# Altium integrated library Linear Technology PMIC-Switching Reg LTC1174-LTC3901.IntLib: 2647 symbols (part 30 of 310)
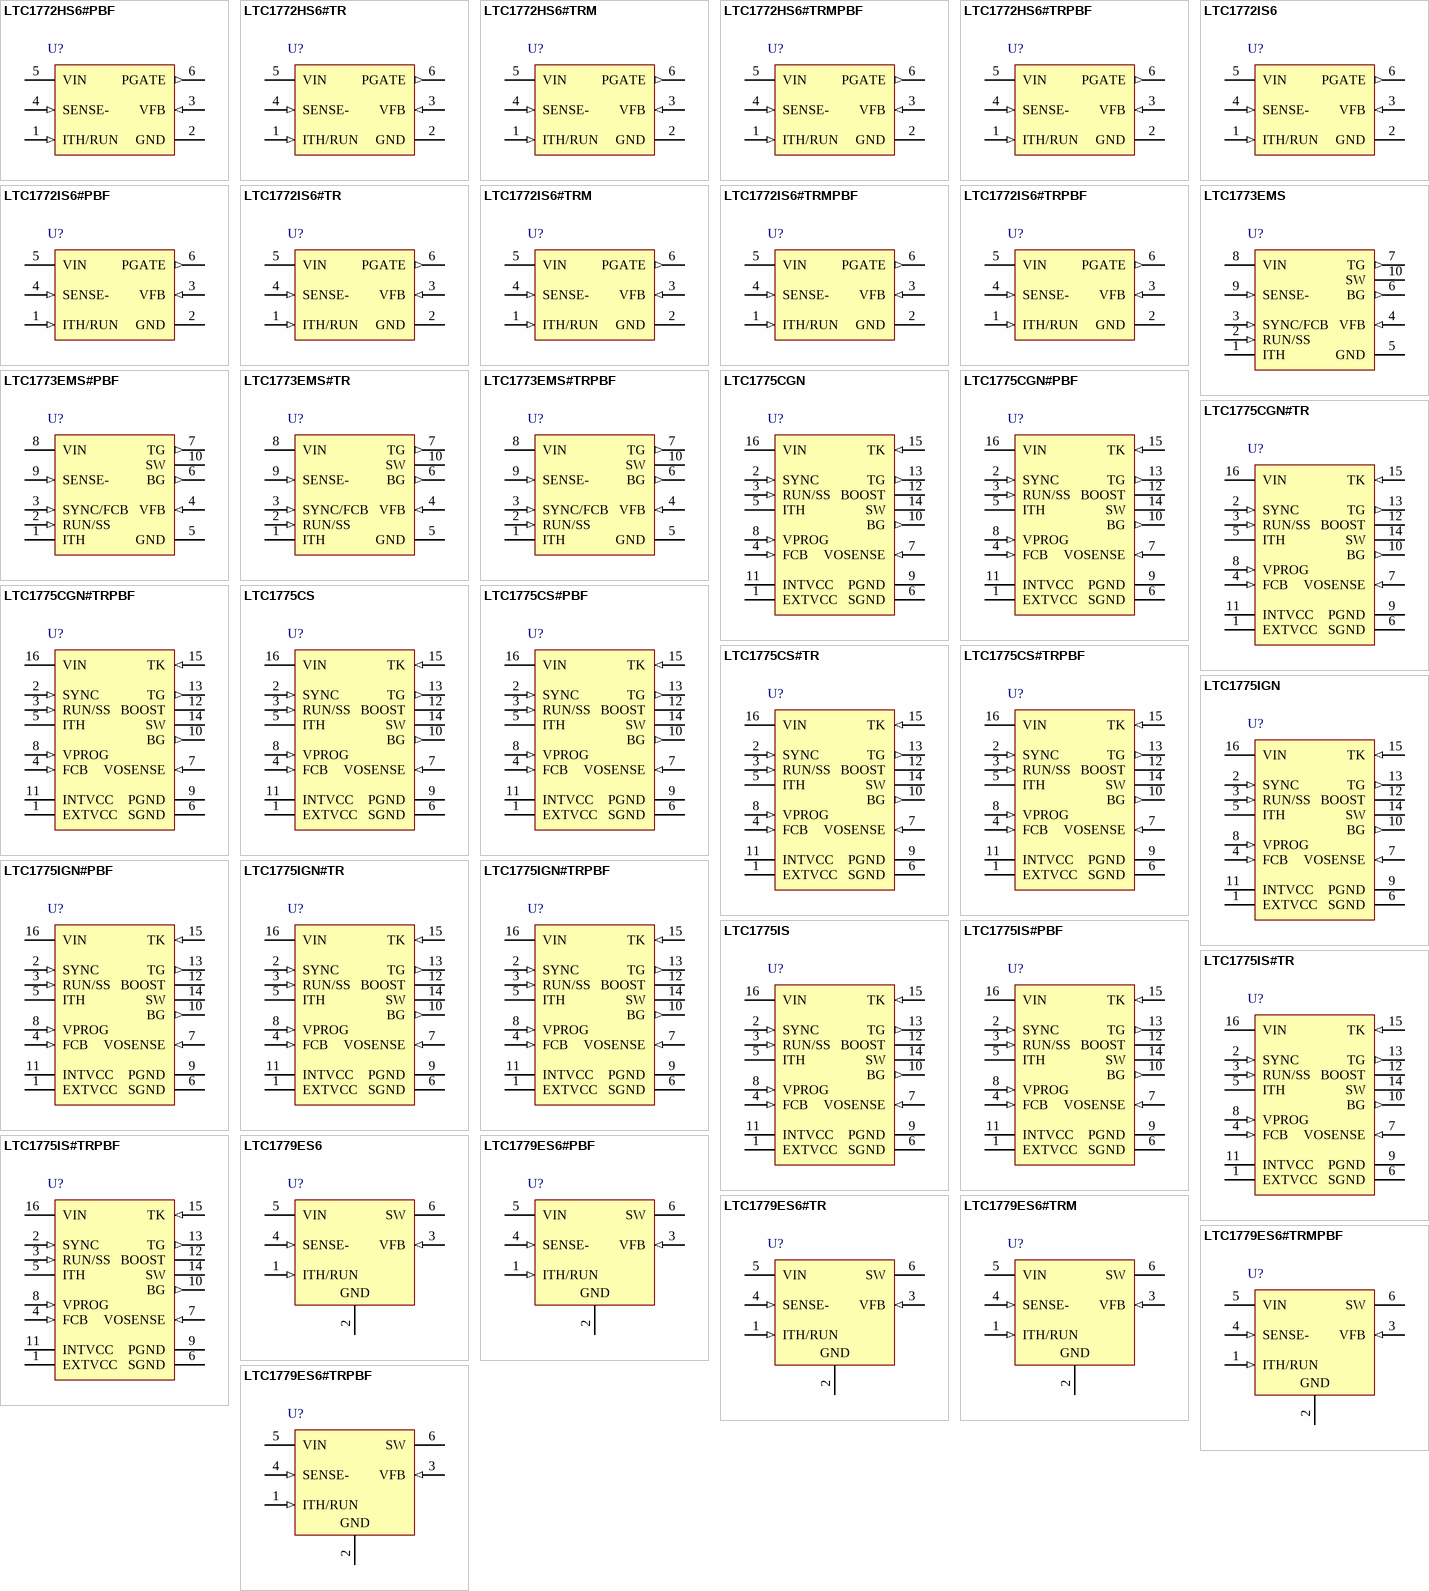
[diagram p133: symbols LTC1772HS6#PBF to LTC1779ES6#TRPBF]

## LTC1772HS6#PBF
designator U?
Constant Frequency Current Mode Step-Down DC/DC Controller, 6-pin SOT23 (S6-6), -40 to 140 degC, Pb-Free; Manufacturer: Linear Technology; PartNumber: LTC1772HS6#PBF; Number of Outputs: 1; PackageReference: S6-6; PackageDescription: 6-Pin Plastic TSOT-23, Body 2.9 x 1.63 mm, Pitch 0.95 mm; RoHS: TRUE; Code_JEDEC: MO-193
footprint LT-S6-6-TSOT-23_N (SOT23, 6-Leads, Body 2.9x1.75mm, Pitch 0.95mm, IPC Medium Density)
footprint LT-S6-6-TSOT-23_L (SOT23, 6-Leads, Body 2.9x1.75mm, Pitch 0.95mm, IPC High Density)
footprint LT-S6-6-TSOT-23_M (SOT23, 6-Leads, Body 2.9x1.75mm, Pitch 0.95mm, IPC Low Density)
pins: 1 ITH/RUN (in), 2 GND (power) "Ground Pin.", 3 VFB (in), 4 SENSE- (in), 5 VIN (power), 6 PGATE (out) "Gate Drive for the External P-Channel MOSFET. This pin swings from 0V to VIN."

## LTC1772HS6#TR
designator U?
Constant Frequency Current Mode Step-Down DC/DC Controller, 6-pin SOT23 (S6-6), -40 to 140 degC, Tape and Reel; Manufacturer: Linear Technology; PartNumber: LTC1772HS6#TR; Number of Outputs: 1; PackageReference: S6-6; PackageDescription: 6-Pin Plastic TSOT-23, Body 2.9 x 1.63 mm, Pitch 0.95 mm; RoHS: FALSE; Code_JEDEC: MO-193
footprint LT-S6-6-TSOT-23_N (SOT23, 6-Leads, Body 2.9x1.75mm, Pitch 0.95mm, IPC Medium Density)
footprint LT-S6-6-TSOT-23_L (SOT23, 6-Leads, Body 2.9x1.75mm, Pitch 0.95mm, IPC High Density)
footprint LT-S6-6-TSOT-23_M (SOT23, 6-Leads, Body 2.9x1.75mm, Pitch 0.95mm, IPC Low Density)
pins: 1 ITH/RUN (in), 2 GND (power) "Ground Pin.", 3 VFB (in), 4 SENSE- (in), 5 VIN (power), 6 PGATE (out) "Gate Drive for the External P-Channel MOSFET. This pin swings from 0V to VIN."

## LTC1772HS6#TRM
designator U?
Constant Frequency Current Mode Step-Down DC/DC Controller, 6-pin SOT23 (S6-6), -40 to 140 degC, Mini Tape and Reel; Manufacturer: Linear Technology; PartNumber: LTC1772HS6#TRM; Number of Outputs: 1; PackageReference: S6-6; PackageDescription: 6-Pin Plastic TSOT-23, Body 2.9 x 1.63 mm, Pitch 0.95 mm; RoHS: FALSE; Code_JEDEC: MO-193
footprint LT-S6-6-TSOT-23_N (SOT23, 6-Leads, Body 2.9x1.75mm, Pitch 0.95mm, IPC Medium Density)
footprint LT-S6-6-TSOT-23_L (SOT23, 6-Leads, Body 2.9x1.75mm, Pitch 0.95mm, IPC High Density)
footprint LT-S6-6-TSOT-23_M (SOT23, 6-Leads, Body 2.9x1.75mm, Pitch 0.95mm, IPC Low Density)
pins: 1 ITH/RUN (in), 2 GND (power) "Ground Pin.", 3 VFB (in), 4 SENSE- (in), 5 VIN (power), 6 PGATE (out) "Gate Drive for the External P-Channel MOSFET. This pin swings from 0V to VIN."

## LTC1772HS6#TRMPBF
designator U?
Constant Frequency Current Mode Step-Down DC/DC Controller, 6-pin SOT23 (S6-6), -40 to 140 degC, Pb-Free, Mini Tape and Reel; Manufacturer: Linear Technology; PartNumber: LTC1772HS6#TRMPBF; Number of Outputs: 1; PackageReference: S6-6; PackageDescription: 6-Pin Plastic TSOT-23, Body 2.9 x 1.63 mm, Pitch 0.95 mm; Supplier 1: Digi-Key; Supplier Part Number 1: LTC1772HS6#TRMPBF-ND; RoHS: TRUE; Code_JEDEC: MO-193
footprint LT-S6-6-TSOT-23_N (SOT23, 6-Leads, Body 2.9x1.75mm, Pitch 0.95mm, IPC Medium Density)
footprint LT-S6-6-TSOT-23_L (SOT23, 6-Leads, Body 2.9x1.75mm, Pitch 0.95mm, IPC High Density)
footprint LT-S6-6-TSOT-23_M (SOT23, 6-Leads, Body 2.9x1.75mm, Pitch 0.95mm, IPC Low Density)
pins: 1 ITH/RUN (in), 2 GND (power) "Ground Pin.", 3 VFB (in), 4 SENSE- (in), 5 VIN (power), 6 PGATE (out) "Gate Drive for the External P-Channel MOSFET. This pin swings from 0V to VIN."

## LTC1772HS6#TRPBF
designator U?
Constant Frequency Current Mode Step-Down DC/DC Controller, 6-pin SOT23 (S6-6), -40 to 140 degC, Pb-Free, Tape and Reel; Manufacturer: Linear Technology; PartNumber: LTC1772HS6#TRPBF; Number of Outputs: 1; PackageReference: S6-6; PackageDescription: 6-Pin Plastic TSOT-23, Body 2.9 x 1.63 mm, Pitch 0.95 mm; Supplier 1: Digi-Key; Supplier Part Number 1: LTC1772HS6#TRPBF-ND; RoHS: TRUE; Code_JEDEC: MO-193
footprint LT-S6-6-TSOT-23_N (SOT23, 6-Leads, Body 2.9x1.75mm, Pitch 0.95mm, IPC Medium Density)
footprint LT-S6-6-TSOT-23_L (SOT23, 6-Leads, Body 2.9x1.75mm, Pitch 0.95mm, IPC High Density)
footprint LT-S6-6-TSOT-23_M (SOT23, 6-Leads, Body 2.9x1.75mm, Pitch 0.95mm, IPC Low Density)
pins: 1 ITH/RUN (in), 2 GND (power) "Ground Pin.", 3 VFB (in), 4 SENSE- (in), 5 VIN (power), 6 PGATE (out) "Gate Drive for the External P-Channel MOSFET. This pin swings from 0V to VIN."

## LTC1772IS6
designator U?
Constant Frequency Current Mode Step-Down DC/DC Controller, 6-pin SOT23 (S6-6), -40 to 85 degC; Manufacturer: Linear Technology; PartNumber: LTC1772IS6; Number of Outputs: 1; PackageReference: S6-6; PackageDescription: 6-Pin Plastic TSOT-23, Body 2.9 x 1.63 mm, Pitch 0.95 mm; RoHS: FALSE; Code_JEDEC: MO-193
footprint LT-S6-6-TSOT-23_N (SOT23, 6-Leads, Body 2.9x1.75mm, Pitch 0.95mm, IPC Medium Density)
footprint LT-S6-6-TSOT-23_L (SOT23, 6-Leads, Body 2.9x1.75mm, Pitch 0.95mm, IPC High Density)
footprint LT-S6-6-TSOT-23_M (SOT23, 6-Leads, Body 2.9x1.75mm, Pitch 0.95mm, IPC Low Density)
pins: 1 ITH/RUN (in), 2 GND (power) "Ground Pin.", 3 VFB (in), 4 SENSE- (in), 5 VIN (power), 6 PGATE (out) "Gate Drive for the External P-Channel MOSFET. This pin swings from 0V to VIN."

## LTC1772IS6#PBF
designator U?
Constant Frequency Current Mode Step-Down DC/DC Controller, 6-pin SOT23 (S6-6), -40 to 85 degC, Pb-Free; Manufacturer: Linear Technology; PartNumber: LTC1772IS6#PBF; Number of Outputs: 1; PackageReference: S6-6; PackageDescription: 6-Pin Plastic TSOT-23, Body 2.9 x 1.63 mm, Pitch 0.95 mm; RoHS: TRUE; Code_JEDEC: MO-193
footprint LT-S6-6-TSOT-23_N (SOT23, 6-Leads, Body 2.9x1.75mm, Pitch 0.95mm, IPC Medium Density)
footprint LT-S6-6-TSOT-23_L (SOT23, 6-Leads, Body 2.9x1.75mm, Pitch 0.95mm, IPC High Density)
footprint LT-S6-6-TSOT-23_M (SOT23, 6-Leads, Body 2.9x1.75mm, Pitch 0.95mm, IPC Low Density)
pins: 1 ITH/RUN (in), 2 GND (power) "Ground Pin.", 3 VFB (in), 4 SENSE- (in), 5 VIN (power), 6 PGATE (out) "Gate Drive for the External P-Channel MOSFET. This pin swings from 0V to VIN."

## LTC1772IS6#TR
designator U?
Constant Frequency Current Mode Step-Down DC/DC Controller, 6-pin SOT23 (S6-6), -40 to 85 degC, Tape and Reel; Manufacturer: Linear Technology; PartNumber: LTC1772IS6#TR; Number of Outputs: 1; PackageReference: S6-6; PackageDescription: 6-Pin Plastic TSOT-23, Body 2.9 x 1.63 mm, Pitch 0.95 mm; Supplier 1: Digi-Key; Supplier Part Number 1: LTC1772IS6#TR-ND; RoHS: FALSE; Code_JEDEC: MO-193
footprint LT-S6-6-TSOT-23_N (SOT23, 6-Leads, Body 2.9x1.75mm, Pitch 0.95mm, IPC Medium Density)
footprint LT-S6-6-TSOT-23_L (SOT23, 6-Leads, Body 2.9x1.75mm, Pitch 0.95mm, IPC High Density)
footprint LT-S6-6-TSOT-23_M (SOT23, 6-Leads, Body 2.9x1.75mm, Pitch 0.95mm, IPC Low Density)
pins: 1 ITH/RUN (in), 2 GND (power) "Ground Pin.", 3 VFB (in), 4 SENSE- (in), 5 VIN (power), 6 PGATE (out) "Gate Drive for the External P-Channel MOSFET. This pin swings from 0V to VIN."

## LTC1772IS6#TRM
designator U?
Constant Frequency Current Mode Step-Down DC/DC Controller, 6-pin SOT23 (S6-6), -40 to 85 degC, Mini Tape and Reel; Manufacturer: Linear Technology; PartNumber: LTC1772IS6#TRM; Number of Outputs: 1; PackageReference: S6-6; PackageDescription: 6-Pin Plastic TSOT-23, Body 2.9 x 1.63 mm, Pitch 0.95 mm; Supplier 1: Digi-Key; Supplier Part Number 1: LTC1772IS6#TRM-ND; RoHS: FALSE; Code_JEDEC: MO-193
footprint LT-S6-6-TSOT-23_N (SOT23, 6-Leads, Body 2.9x1.75mm, Pitch 0.95mm, IPC Medium Density)
footprint LT-S6-6-TSOT-23_L (SOT23, 6-Leads, Body 2.9x1.75mm, Pitch 0.95mm, IPC High Density)
footprint LT-S6-6-TSOT-23_M (SOT23, 6-Leads, Body 2.9x1.75mm, Pitch 0.95mm, IPC Low Density)
pins: 1 ITH/RUN (in), 2 GND (power) "Ground Pin.", 3 VFB (in), 4 SENSE- (in), 5 VIN (power), 6 PGATE (out) "Gate Drive for the External P-Channel MOSFET. This pin swings from 0V to VIN."

## LTC1772IS6#TRMPBF
designator U?
Constant Frequency Current Mode Step-Down DC/DC Controller, 6-pin SOT23 (S6-6), -40 to 85 degC, Pb-Free, Mini Tape and Reel; Manufacturer: Linear Technology; PartNumber: LTC1772IS6#TRMPBF; Number of Outputs: 1; PackageReference: S6-6; PackageDescription: 6-Pin Plastic TSOT-23, Body 2.9 x 1.63 mm, Pitch 0.95 mm; Supplier 1: Digi-Key; Supplier Part Number 1: LTC1772IS6#TRMPBF-ND; RoHS: TRUE; Code_JEDEC: MO-193
footprint LT-S6-6-TSOT-23_N (SOT23, 6-Leads, Body 2.9x1.75mm, Pitch 0.95mm, IPC Medium Density)
footprint LT-S6-6-TSOT-23_L (SOT23, 6-Leads, Body 2.9x1.75mm, Pitch 0.95mm, IPC High Density)
footprint LT-S6-6-TSOT-23_M (SOT23, 6-Leads, Body 2.9x1.75mm, Pitch 0.95mm, IPC Low Density)
pins: 1 ITH/RUN (in), 2 GND (power) "Ground Pin.", 3 VFB (in), 4 SENSE- (in), 5 VIN (power), 6 PGATE (out) "Gate Drive for the External P-Channel MOSFET. This pin swings from 0V to VIN."

## LTC1772IS6#TRPBF
designator U?
Constant Frequency Current Mode Step-Down DC/DC Controller, 6-pin SOT23 (S6-6), -40 to 85 degC, Pb-Free, Tape and Reel; Manufacturer: Linear Technology; PartNumber: LTC1772IS6#TRPBF; Number of Outputs: 1; PackageReference: S6-6; PackageDescription: 6-Pin Plastic TSOT-23, Body 2.9 x 1.63 mm, Pitch 0.95 mm; Supplier 1: Digi-Key; Supplier Part Number 1: LTC1772IS6#TRPBF-ND; RoHS: TRUE; Code_JEDEC: MO-193
footprint LT-S6-6-TSOT-23_N (SOT23, 6-Leads, Body 2.9x1.75mm, Pitch 0.95mm, IPC Medium Density)
footprint LT-S6-6-TSOT-23_L (SOT23, 6-Leads, Body 2.9x1.75mm, Pitch 0.95mm, IPC High Density)
footprint LT-S6-6-TSOT-23_M (SOT23, 6-Leads, Body 2.9x1.75mm, Pitch 0.95mm, IPC Low Density)
pins: 1 ITH/RUN (in), 2 GND (power) "Ground Pin.", 3 VFB (in), 4 SENSE- (in), 5 VIN (power), 6 PGATE (out) "Gate Drive for the External P-Channel MOSFET. This pin swings from 0V to VIN."

## LTC1773EMS
designator U?
Synchronous Step-Down DC/DC Controller, 10-pin SOP (MS-10), -40 to 85 degC; Manufacturer: Linear Technology; PartNumber: LTC1773EMS; Number of Outputs: 1; PackageReference: MS-10; PackageDescription: 10-Pin Plastic MSOP, Body 3 x 3 mm, Pitch 0.5 mm; Supplier 1: Digi-Key; Supplier Part Number 1: LTC1773EMS-ND; RoHS: FALSE
footprint LT-MS-10_N (SOP, 10-Leads, Body 3.1x3.1mm, Pitch 0.5mm, IPC Medium Density)
footprint LT-MS-10_L (SOP, 10-Leads, Body 3.1x3.1mm, Pitch 0.5mm, IPC High Density)
footprint LT-MS-10_M (SOP, 10-Leads, Body 3.1x3.1mm, Pitch 0.5mm, IPC Low Density)
pins: 1 ITH "Error Amplifier Compensation Point. The current comparator threshold increases with this control voltage. Nominal voltage range for this pin is 0V to 1.2V. Under high duty cycle and nearing current limit, ITH can swing up to (See Datasheet)", 2 RUN/SS (in) "Combination of Soft-Start and Run Control Inputs. A capacitor to ground at this pin sets the ramp time to full current output. The time is approximately 0.8s/uF. Forcing this pin below 0.4V shuts down all the circuitry.", 3 SYNC/FCB (in) "Multifunction Pin. This pin performs three functions: 1) secondary winding feedback input, 2) external clock synchronization and 3) Burst Mode operation or forced continuous mode select. For secondary winding applications, (See Datasheet)", 4 VFB (in) "Feedback Pin. Receives the feedback voltage from an external resistive divider across the output. Do not use more than 0.01uF of feedforward capacitance from FB to the output.", 5 GND (power) "Ground Pin.", 6 BG (out) "Bottom Gate Driver of External N-Channel Power MOSFET. This pin swings from 0V to VIN.", 7 TG (out) "Top Gate Driver of External P-Channel Power MOSFET. This pin swings from 0V to VIN.", 8 VIN (power) "Main Supply Pin. Must be closely decoupled to GND (pin 5).", 9 SENSE- (in) "The Negative Input to the Current Comparator. A sense resistor between this pin and VIN sets the peak current in the top switch. Connect this pin to the source of the external P-Channel power MOSFET.", 10 SW "Switch Node Connection to Inductor. This pin connects to the drains of the external main and synchronous power MOSFET switches."

## LTC1773EMS#PBF
designator U?
Synchronous Step-Down DC/DC Controller, 10-pin SOP (MS-10), -40 to 85 degC, Pb-Free; Manufacturer: Linear Technology; PartNumber: LTC1773EMS#PBF; Number of Outputs: 1; PackageReference: MS-10; PackageDescription: 10-Pin Plastic MSOP, Body 3 x 3 mm, Pitch 0.5 mm; Supplier 1: Digi-Key; Supplier Part Number 1: LTC1773EMS#PBF-ND; RoHS: TRUE
footprint LT-MS-10_N (SOP, 10-Leads, Body 3.1x3.1mm, Pitch 0.5mm, IPC Medium Density)
footprint LT-MS-10_L (SOP, 10-Leads, Body 3.1x3.1mm, Pitch 0.5mm, IPC High Density)
footprint LT-MS-10_M (SOP, 10-Leads, Body 3.1x3.1mm, Pitch 0.5mm, IPC Low Density)
pins: 1 ITH "Error Amplifier Compensation Point. The current comparator threshold increases with this control voltage. Nominal voltage range for this pin is 0V to 1.2V. Under high duty cycle and nearing current limit, ITH can swing up to (See Datasheet)", 2 RUN/SS (in) "Combination of Soft-Start and Run Control Inputs. A capacitor to ground at this pin sets the ramp time to full current output. The time is approximately 0.8s/uF. Forcing this pin below 0.4V shuts down all the circuitry.", 3 SYNC/FCB (in) "Multifunction Pin. This pin performs three functions: 1) secondary winding feedback input, 2) external clock synchronization and 3) Burst Mode operation or forced continuous mode select. For secondary winding applications, (See Datasheet)", 4 VFB (in) "Feedback Pin. Receives the feedback voltage from an external resistive divider across the output. Do not use more than 0.01uF of feedforward capacitance from FB to the output.", 5 GND (power) "Ground Pin.", 6 BG (out) "Bottom Gate Driver of External N-Channel Power MOSFET. This pin swings from 0V to VIN.", 7 TG (out) "Top Gate Driver of External P-Channel Power MOSFET. This pin swings from 0V to VIN.", 8 VIN (power) "Main Supply Pin. Must be closely decoupled to GND (pin 5).", 9 SENSE- (in) "The Negative Input to the Current Comparator. A sense resistor between this pin and VIN sets the peak current in the top switch. Connect this pin to the source of the external P-Channel power MOSFET.", 10 SW "Switch Node Connection to Inductor. This pin connects to the drains of the external main and synchronous power MOSFET switches."

## LTC1773EMS#TR
designator U?
Synchronous Step-Down DC/DC Controller, 10-pin SOP (MS-10), -40 to 85 degC, Tape and Reel; Manufacturer: Linear Technology; PartNumber: LTC1773EMS#TR; Number of Outputs: 1; PackageReference: MS-10; PackageDescription: 10-Pin Plastic MSOP, Body 3 x 3 mm, Pitch 0.5 mm; Supplier 1: Digi-Key; Supplier Part Number 1: LTC1773EMS#TR-ND; RoHS: FALSE
footprint LT-MS-10_N (SOP, 10-Leads, Body 3.1x3.1mm, Pitch 0.5mm, IPC Medium Density)
footprint LT-MS-10_L (SOP, 10-Leads, Body 3.1x3.1mm, Pitch 0.5mm, IPC High Density)
footprint LT-MS-10_M (SOP, 10-Leads, Body 3.1x3.1mm, Pitch 0.5mm, IPC Low Density)
pins: 1 ITH "Error Amplifier Compensation Point. The current comparator threshold increases with this control voltage. Nominal voltage range for this pin is 0V to 1.2V. Under high duty cycle and nearing current limit, ITH can swing up to (See Datasheet)", 2 RUN/SS (in) "Combination of Soft-Start and Run Control Inputs. A capacitor to ground at this pin sets the ramp time to full current output. The time is approximately 0.8s/uF. Forcing this pin below 0.4V shuts down all the circuitry.", 3 SYNC/FCB (in) "Multifunction Pin. This pin performs three functions: 1) secondary winding feedback input, 2) external clock synchronization and 3) Burst Mode operation or forced continuous mode select. For secondary winding applications, (See Datasheet)", 4 VFB (in) "Feedback Pin. Receives the feedback voltage from an external resistive divider across the output. Do not use more than 0.01uF of feedforward capacitance from FB to the output.", 5 GND (power) "Ground Pin.", 6 BG (out) "Bottom Gate Driver of External N-Channel Power MOSFET. This pin swings from 0V to VIN.", 7 TG (out) "Top Gate Driver of External P-Channel Power MOSFET. This pin swings from 0V to VIN.", 8 VIN (power) "Main Supply Pin. Must be closely decoupled to GND (pin 5).", 9 SENSE- (in) "The Negative Input to the Current Comparator. A sense resistor between this pin and VIN sets the peak current in the top switch. Connect this pin to the source of the external P-Channel power MOSFET.", 10 SW "Switch Node Connection to Inductor. This pin connects to the drains of the external main and synchronous power MOSFET switches."

## LTC1773EMS#TRPBF
designator U?
Synchronous Step-Down DC/DC Controller, 10-pin SOP (MS-10), -40 to 85 degC, Pb-Free, Tape and Reel; Manufacturer: Linear Technology; PartNumber: LTC1773EMS#TRPBF; Number of Outputs: 1; PackageReference: MS-10; PackageDescription: 10-Pin Plastic MSOP, Body 3 x 3 mm, Pitch 0.5 mm; Supplier 1: Digi-Key; Supplier Part Number 1: LTC1773EMS#TRPBF-ND; RoHS: TRUE
footprint LT-MS-10_N (SOP, 10-Leads, Body 3.1x3.1mm, Pitch 0.5mm, IPC Medium Density)
footprint LT-MS-10_L (SOP, 10-Leads, Body 3.1x3.1mm, Pitch 0.5mm, IPC High Density)
footprint LT-MS-10_M (SOP, 10-Leads, Body 3.1x3.1mm, Pitch 0.5mm, IPC Low Density)
pins: 1 ITH "Error Amplifier Compensation Point. The current comparator threshold increases with this control voltage. Nominal voltage range for this pin is 0V to 1.2V. Under high duty cycle and nearing current limit, ITH can swing up to (See Datasheet)", 2 RUN/SS (in) "Combination of Soft-Start and Run Control Inputs. A capacitor to ground at this pin sets the ramp time to full current output. The time is approximately 0.8s/uF. Forcing this pin below 0.4V shuts down all the circuitry.", 3 SYNC/FCB (in) "Multifunction Pin. This pin performs three functions: 1) secondary winding feedback input, 2) external clock synchronization and 3) Burst Mode operation or forced continuous mode select. For secondary winding applications, (See Datasheet)", 4 VFB (in) "Feedback Pin. Receives the feedback voltage from an external resistive divider across the output. Do not use more than 0.01uF of feedforward capacitance from FB to the output.", 5 GND (power) "Ground Pin.", 6 BG (out) "Bottom Gate Driver of External N-Channel Power MOSFET. This pin swings from 0V to VIN.", 7 TG (out) "Top Gate Driver of External P-Channel Power MOSFET. This pin swings from 0V to VIN.", 8 VIN (power) "Main Supply Pin. Must be closely decoupled to GND (pin 5).", 9 SENSE- (in) "The Negative Input to the Current Comparator. A sense resistor between this pin and VIN sets the peak current in the top switch. Connect this pin to the source of the external P-Channel power MOSFET.", 10 SW "Switch Node Connection to Inductor. This pin connects to the drains of the external main and synchronous power MOSFET switches."

## LTC1775CGN
designator U?
High Power No Rsense(TM) Current Mode Synchronous Step-Down Switching Regulator, 16-pin SOP (GN-16), 0 to 70 degC; Manufacturer: Linear Technology; PartNumber: LTC1775CGN; Number of Outputs: 1; PackageReference: GN-16; PackageDescription: 16-Pin Plastic SSOP, Body 4.9 x 3.9 mm, Pitch 0.635 mm; Supplier 1: Digi-Key; Supplier Part Number 1: LTC1775CGN-ND; RoHS: FALSE
footprint LT-GN-16_N (SOP, 16-Leads, Body 5x4mm, Pitch 0.635mm, IPC Medium Density)
footprint LT-GN-16_L (SOP, 16-Leads, Body 5x4mm, Pitch 0.635mm, IPC High Density)
footprint LT-GN-16_M (SOP, 16-Leads, Body 5x4mm, Pitch 0.635mm, IPC Low Density)
pins: 1 EXTVCC (power) "INTVCC Switch Input. When the EXTVCC voltage is above 4.7V, the switch closes and supplies INTVCC power from EXTVCC. Do not exceed 7V at this pin.", 2 SYNC (in) "Synchronization Input for Internal Oscillator. The oscillator will nominally run at 150kHz when open, 225kHz when tied above 1.2V, and will lock over a 1.5:1 clock frequency range.", 3 RUN/SS (in) "Run Control and Soft Start Input. A capacitor to ground at this pin sets the ramp time to full current output (approximately 1s/uF). Forcing this pin below 1.4V shuts down the device.", 4 FCB (in) "Forced Continuous Input. Tie this pin to ground to force synchronous operation at low load currents, to a resistive divider from the secondary output when using a secondary winding, or to INTVCC to enable Burst Mode (See Datasheet)", 5 ITH "Error Amplifier Compensation Point. The current comparator threshold increases with this control voltage, forcing inductor current to be roughly proportional to VITH. Nominal voltage range for this pin is 0V to 2.4V.", 6 SGND (power) "Signal Ground. Connect to the (-) terminal of COUT.", 7 VOSENSE (in) "Output Voltage Sense. Feedback input from the remotely sensed output voltage or from an external resistive divider across the output.", 8 VPROG (in) "Output Voltage Programming. When VOSENSE is connected to the output, VPROG < 0.8V selects a 3.3V output and VPROG > 3.5V selects a 5V output.Leaving VPROG open allows the output voltage to be set by an external resistive (See Datasheet)", 9 PGND (power) "Driver Power Ground. Connects to the source of the bottom N channel MOSFET, the (-) terminal of CVCC and the (-) terminal of CIN.", 10 BG (out) "Bottom Gate Drive. Drives the gate of the bottom N-channel MOSFET between ground and INTVCC.", 11 INTVCC (power) "Internal 5.2V Regulator Output. The driver and control circuits are powered from this voltage. Decouple this pin to power ground with a minimum of 4.7uF tantalum or other low ESR capacitor.", 12 BOOST "Topside Floating Driver Supply. The (+) terminal of the bootstrap capacitor connects here. This pin swings from a Schottky diode drop below INTVCC to VIN + INTVCC.", 13 TG (out) "Top Gate Drive. Drives the top N-channel MOSFET with a voltage swing equal to INTVCC superimposed on the switch node voltage.", 14 SW "Switch Node. The (-) terminal of the bootstrap capacitor connects here. This pin swings from a diode drop below ground up to VIN.", 15 TK (in) "Top MOSFET Kelvin Sense. MOSFET VDS sensing requires this pin to be routed to the drain of the top MOSFET separately from VIN.", 16 VIN (power) "Main Supply Input. Decouple this pin to ground with an RC filter (1ohm, 0.1uF) for applications above 3A."

## LTC1775CGN#PBF
designator U?
High Power No Rsense(TM) Current Mode Synchronous Step-Down Switching Regulator, 16-pin SOP (GN-16), 0 to 70 degC, Pb-Free; Manufacturer: Linear Technology; PartNumber: LTC1775CGN#PBF; Number of Outputs: 1; PackageReference: GN-16; PackageDescription: 16-Pin Plastic SSOP, Body 4.9 x 3.9 mm, Pitch 0.635 mm; Supplier 1: Digi-Key; Supplier Part Number 1: LTC1775CGN#PBF-ND; RoHS: TRUE
footprint LT-GN-16_N (SOP, 16-Leads, Body 5x4mm, Pitch 0.635mm, IPC Medium Density)
footprint LT-GN-16_L (SOP, 16-Leads, Body 5x4mm, Pitch 0.635mm, IPC High Density)
footprint LT-GN-16_M (SOP, 16-Leads, Body 5x4mm, Pitch 0.635mm, IPC Low Density)
pins: 1 EXTVCC (power) "INTVCC Switch Input. When the EXTVCC voltage is above 4.7V, the switch closes and supplies INTVCC power from EXTVCC. Do not exceed 7V at this pin.", 2 SYNC (in) "Synchronization Input for Internal Oscillator. The oscillator will nominally run at 150kHz when open, 225kHz when tied above 1.2V, and will lock over a 1.5:1 clock frequency range.", 3 RUN/SS (in) "Run Control and Soft Start Input. A capacitor to ground at this pin sets the ramp time to full current output (approximately 1s/uF). Forcing this pin below 1.4V shuts down the device.", 4 FCB (in) "Forced Continuous Input. Tie this pin to ground to force synchronous operation at low load currents, to a resistive divider from the secondary output when using a secondary winding, or to INTVCC to enable Burst Mode (See Datasheet)", 5 ITH "Error Amplifier Compensation Point. The current comparator threshold increases with this control voltage, forcing inductor current to be roughly proportional to VITH. Nominal voltage range for this pin is 0V to 2.4V.", 6 SGND (power) "Signal Ground. Connect to the (-) terminal of COUT.", 7 VOSENSE (in) "Output Voltage Sense. Feedback input from the remotely sensed output voltage or from an external resistive divider across the output.", 8 VPROG (in) "Output Voltage Programming. When VOSENSE is connected to the output, VPROG < 0.8V selects a 3.3V output and VPROG > 3.5V selects a 5V output.Leaving VPROG open allows the output voltage to be set by an external resistive (See Datasheet)", 9 PGND (power) "Driver Power Ground. Connects to the source of the bottom N channel MOSFET, the (-) terminal of CVCC and the (-) terminal of CIN.", 10 BG (out) "Bottom Gate Drive. Drives the gate of the bottom N-channel MOSFET between ground and INTVCC.", 11 INTVCC (power) "Internal 5.2V Regulator Output. The driver and control circuits are powered from this voltage. Decouple this pin to power ground with a minimum of 4.7uF tantalum or other low ESR capacitor.", 12 BOOST "Topside Floating Driver Supply. The (+) terminal of the bootstrap capacitor connects here. This pin swings from a Schottky diode drop below INTVCC to VIN + INTVCC.", 13 TG (out) "Top Gate Drive. Drives the top N-channel MOSFET with a voltage swing equal to INTVCC superimposed on the switch node voltage.", 14 SW "Switch Node. The (-) terminal of the bootstrap capacitor connects here. This pin swings from a diode drop below ground up to VIN.", 15 TK (in) "Top MOSFET Kelvin Sense. MOSFET VDS sensing requires this pin to be routed to the drain of the top MOSFET separately from VIN.", 16 VIN (power) "Main Supply Input. Decouple this pin to ground with an RC filter (1ohm, 0.1uF) for applications above 3A."

## LTC1775CGN#TR
designator U?
High Power No Rsense(TM) Current Mode Synchronous Step-Down Switching Regulator, 16-pin SOP (GN-16), 0 to 70 degC, Tape and Reel; Manufacturer: Linear Technology; PartNumber: LTC1775CGN#TR; Number of Outputs: 1; PackageReference: GN-16; PackageDescription: 16-Pin Plastic SSOP, Body 4.9 x 3.9 mm, Pitch 0.635 mm; Supplier 1: Digi-Key; Supplier Part Number 1: LTC1775CGN#TR-ND; RoHS: FALSE
footprint LT-GN-16_N (SOP, 16-Leads, Body 5x4mm, Pitch 0.635mm, IPC Medium Density)
footprint LT-GN-16_L (SOP, 16-Leads, Body 5x4mm, Pitch 0.635mm, IPC High Density)
footprint LT-GN-16_M (SOP, 16-Leads, Body 5x4mm, Pitch 0.635mm, IPC Low Density)
pins: 1 EXTVCC (power) "INTVCC Switch Input. When the EXTVCC voltage is above 4.7V, the switch closes and supplies INTVCC power from EXTVCC. Do not exceed 7V at this pin.", 2 SYNC (in) "Synchronization Input for Internal Oscillator. The oscillator will nominally run at 150kHz when open, 225kHz when tied above 1.2V, and will lock over a 1.5:1 clock frequency range.", 3 RUN/SS (in) "Run Control and Soft Start Input. A capacitor to ground at this pin sets the ramp time to full current output (approximately 1s/uF). Forcing this pin below 1.4V shuts down the device.", 4 FCB (in) "Forced Continuous Input. Tie this pin to ground to force synchronous operation at low load currents, to a resistive divider from the secondary output when using a secondary winding, or to INTVCC to enable Burst Mode (See Datasheet)", 5 ITH "Error Amplifier Compensation Point. The current comparator threshold increases with this control voltage, forcing inductor current to be roughly proportional to VITH. Nominal voltage range for this pin is 0V to 2.4V.", 6 SGND (power) "Signal Ground. Connect to the (-) terminal of COUT.", 7 VOSENSE (in) "Output Voltage Sense. Feedback input from the remotely sensed output voltage or from an external resistive divider across the output.", 8 VPROG (in) "Output Voltage Programming. When VOSENSE is connected to the output, VPROG < 0.8V selects a 3.3V output and VPROG > 3.5V selects a 5V output.Leaving VPROG open allows the output voltage to be set by an external resistive (See Datasheet)", 9 PGND (power) "Driver Power Ground. Connects to the source of the bottom N channel MOSFET, the (-) terminal of CVCC and the (-) terminal of CIN.", 10 BG (out) "Bottom Gate Drive. Drives the gate of the bottom N-channel MOSFET between ground and INTVCC.", 11 INTVCC (power) "Internal 5.2V Regulator Output. The driver and control circuits are powered from this voltage. Decouple this pin to power ground with a minimum of 4.7uF tantalum or other low ESR capacitor.", 12 BOOST "Topside Floating Driver Supply. The (+) terminal of the bootstrap capacitor connects here. This pin swings from a Schottky diode drop below INTVCC to VIN + INTVCC.", 13 TG (out) "Top Gate Drive. Drives the top N-channel MOSFET with a voltage swing equal to INTVCC superimposed on the switch node voltage.", 14 SW "Switch Node. The (-) terminal of the bootstrap capacitor connects here. This pin swings from a diode drop below ground up to VIN.", 15 TK (in) "Top MOSFET Kelvin Sense. MOSFET VDS sensing requires this pin to be routed to the drain of the top MOSFET separately from VIN.", 16 VIN (power) "Main Supply Input. Decouple this pin to ground with an RC filter (1ohm, 0.1uF) for applications above 3A."

## LTC1775CGN#TRPBF
designator U?
High Power No Rsense(TM) Current Mode Synchronous Step-Down Switching Regulator, 16-pin SOP (GN-16), 0 to 70 degC, Pb-Free, Tape and Reel; Manufacturer: Linear Technology; PartNumber: LTC1775CGN#TRPBF; Number of Outputs: 1; PackageReference: GN-16; PackageDescription: 16-Pin Plastic SSOP, Body 4.9 x 3.9 mm, Pitch 0.635 mm; Supplier 1: Digi-Key; Supplier Part Number 1: LTC1775CGN#TRPBF-ND; RoHS: TRUE
footprint LT-GN-16_N (SOP, 16-Leads, Body 5x4mm, Pitch 0.635mm, IPC Medium Density)
footprint LT-GN-16_L (SOP, 16-Leads, Body 5x4mm, Pitch 0.635mm, IPC High Density)
footprint LT-GN-16_M (SOP, 16-Leads, Body 5x4mm, Pitch 0.635mm, IPC Low Density)
pins: 1 EXTVCC (power) "INTVCC Switch Input. When the EXTVCC voltage is above 4.7V, the switch closes and supplies INTVCC power from EXTVCC. Do not exceed 7V at this pin.", 2 SYNC (in) "Synchronization Input for Internal Oscillator. The oscillator will nominally run at 150kHz when open, 225kHz when tied above 1.2V, and will lock over a 1.5:1 clock frequency range.", 3 RUN/SS (in) "Run Control and Soft Start Input. A capacitor to ground at this pin sets the ramp time to full current output (approximately 1s/uF). Forcing this pin below 1.4V shuts down the device.", 4 FCB (in) "Forced Continuous Input. Tie this pin to ground to force synchronous operation at low load currents, to a resistive divider from the secondary output when using a secondary winding, or to INTVCC to enable Burst Mode (See Datasheet)", 5 ITH "Error Amplifier Compensation Point. The current comparator threshold increases with this control voltage, forcing inductor current to be roughly proportional to VITH. Nominal voltage range for this pin is 0V to 2.4V.", 6 SGND (power) "Signal Ground. Connect to the (-) terminal of COUT.", 7 VOSENSE (in) "Output Voltage Sense. Feedback input from the remotely sensed output voltage or from an external resistive divider across the output.", 8 VPROG (in) "Output Voltage Programming. When VOSENSE is connected to the output, VPROG < 0.8V selects a 3.3V output and VPROG > 3.5V selects a 5V output.Leaving VPROG open allows the output voltage to be set by an external resistive (See Datasheet)", 9 PGND (power) "Driver Power Ground. Connects to the source of the bottom N channel MOSFET, the (-) terminal of CVCC and the (-) terminal of CIN.", 10 BG (out) "Bottom Gate Drive. Drives the gate of the bottom N-channel MOSFET between ground and INTVCC.", 11 INTVCC (power) "Internal 5.2V Regulator Output. The driver and control circuits are powered from this voltage. Decouple this pin to power ground with a minimum of 4.7uF tantalum or other low ESR capacitor.", 12 BOOST "Topside Floating Driver Supply. The (+) terminal of the bootstrap capacitor connects here. This pin swings from a Schottky diode drop below INTVCC to VIN + INTVCC.", 13 TG (out) "Top Gate Drive. Drives the top N-channel MOSFET with a voltage swing equal to INTVCC superimposed on the switch node voltage.", 14 SW "Switch Node. The (-) terminal of the bootstrap capacitor connects here. This pin swings from a diode drop below ground up to VIN.", 15 TK (in) "Top MOSFET Kelvin Sense. MOSFET VDS sensing requires this pin to be routed to the drain of the top MOSFET separately from VIN.", 16 VIN (power) "Main Supply Input. Decouple this pin to ground with an RC filter (1ohm, 0.1uF) for applications above 3A."

## LTC1775CS
designator U?
High Power No Rsense(TM) Current Mode Synchronous Step-Down Switching Regulator, 16-pin SOP (S-16), 0 to 70 degC; Manufacturer: Linear Technology; PartNumber: LTC1775CS; Number of Outputs: 1; PackageReference: S-16; PackageDescription: 16-Pin Plastic Small Outline, Body 9.9 x 3.9 mm, Pitch 1.27 mm; Supplier 1: Digi-Key; Supplier Part Number 1: LTC1775CS-ND; RoHS: FALSE
footprint LT-S-16_N (SOP, 16-Leads, Body 10x4mm, Pitch 1.27mm, IPC Medium Density)
footprint LT-S-16_L (SOP, 16-Leads, Body 10x4mm, Pitch 1.27mm, IPC High Density)
footprint LT-S-16_M (SOP, 16-Leads, Body 10x4mm, Pitch 1.27mm, IPC Low Density)
pins: 1 EXTVCC (power) "INTVCC Switch Input. When the EXTVCC voltage is above 4.7V, the switch closes and supplies INTVCC power from EXTVCC. Do not exceed 7V at this pin.", 2 SYNC (in) "Synchronization Input for Internal Oscillator. The oscillator will nominally run at 150kHz when open, 225kHz when tied above 1.2V, and will lock over a 1.5:1 clock frequency range.", 3 RUN/SS (in) "Run Control and Soft Start Input. A capacitor to ground at this pin sets the ramp time to full current output (approximately 1s/uF). Forcing this pin below 1.4V shuts down the device.", 4 FCB (in) "Forced Continuous Input. Tie this pin to ground to force synchronous operation at low load currents, to a resistive divider from the secondary output when using a secondary winding, or to INTVCC to enable Burst Mode (See Datasheet)", 5 ITH "Error Amplifier Compensation Point. The current comparator threshold increases with this control voltage, forcing inductor current to be roughly proportional to VITH. Nominal voltage range for this pin is 0V to 2.4V.", 6 SGND (power) "Signal Ground. Connect to the (-) terminal of COUT.", 7 VOSENSE (in) "Output Voltage Sense. Feedback input from the remotely sensed output voltage or from an external resistive divider across the output.", 8 VPROG (in) "Output Voltage Programming. When VOSENSE is connected to the output, VPROG < 0.8V selects a 3.3V output and VPROG > 3.5V selects a 5V output.Leaving VPROG open allows the output voltage to be set by an external resistive (See Datasheet)", 9 PGND (power) "Driver Power Ground. Connects to the source of the bottom N channel MOSFET, the (-) terminal of CVCC and the (-) terminal of CIN.", 10 BG (out) "Bottom Gate Drive. Drives the gate of the bottom N-channel MOSFET between ground and INTVCC.", 11 INTVCC (power) "Internal 5.2V Regulator Output. The driver and control circuits are powered from this voltage. Decouple this pin to power ground with a minimum of 4.7uF tantalum or other low ESR capacitor.", 12 BOOST "Topside Floating Driver Supply. The (+) terminal of the bootstrap capacitor connects here. This pin swings from a Schottky diode drop below INTVCC to VIN + INTVCC.", 13 TG (out) "Top Gate Drive. Drives the top N-channel MOSFET with a voltage swing equal to INTVCC superimposed on the switch node voltage.", 14 SW "Switch Node. The (-) terminal of the bootstrap capacitor connects here. This pin swings from a diode drop below ground up to VIN.", 15 TK (in) "Top MOSFET Kelvin Sense. MOSFET VDS sensing requires this pin to be routed to the drain of the top MOSFET separately from VIN.", 16 VIN (power) "Main Supply Input. Decouple this pin to ground with an RC filter (1ohm, 0.1uF) for applications above 3A."

## LTC1775CS#PBF
designator U?
High Power No Rsense(TM) Current Mode Synchronous Step-Down Switching Regulator, 16-pin SOP (S-16), 0 to 70 degC, Pb-Free; Manufacturer: Linear Technology; PartNumber: LTC1775CS#PBF; Number of Outputs: 1; PackageReference: S-16; PackageDescription: 16-Pin Plastic Small Outline, Body 9.9 x 3.9 mm, Pitch 1.27 mm; Supplier 1: Digi-Key; Supplier Part Number 1: LTC1775CS#PBF-ND; RoHS: TRUE
footprint LT-S-16_N (SOP, 16-Leads, Body 10x4mm, Pitch 1.27mm, IPC Medium Density)
footprint LT-S-16_L (SOP, 16-Leads, Body 10x4mm, Pitch 1.27mm, IPC High Density)
footprint LT-S-16_M (SOP, 16-Leads, Body 10x4mm, Pitch 1.27mm, IPC Low Density)
pins: 1 EXTVCC (power) "INTVCC Switch Input. When the EXTVCC voltage is above 4.7V, the switch closes and supplies INTVCC power from EXTVCC. Do not exceed 7V at this pin.", 2 SYNC (in) "Synchronization Input for Internal Oscillator. The oscillator will nominally run at 150kHz when open, 225kHz when tied above 1.2V, and will lock over a 1.5:1 clock frequency range.", 3 RUN/SS (in) "Run Control and Soft Start Input. A capacitor to ground at this pin sets the ramp time to full current output (approximately 1s/uF). Forcing this pin below 1.4V shuts down the device.", 4 FCB (in) "Forced Continuous Input. Tie this pin to ground to force synchronous operation at low load currents, to a resistive divider from the secondary output when using a secondary winding, or to INTVCC to enable Burst Mode (See Datasheet)", 5 ITH "Error Amplifier Compensation Point. The current comparator threshold increases with this control voltage, forcing inductor current to be roughly proportional to VITH. Nominal voltage range for this pin is 0V to 2.4V.", 6 SGND (power) "Signal Ground. Connect to the (-) terminal of COUT.", 7 VOSENSE (in) "Output Voltage Sense. Feedback input from the remotely sensed output voltage or from an external resistive divider across the output.", 8 VPROG (in) "Output Voltage Programming. When VOSENSE is connected to the output, VPROG < 0.8V selects a 3.3V output and VPROG > 3.5V selects a 5V output.Leaving VPROG open allows the output voltage to be set by an external resistive (See Datasheet)", 9 PGND (power) "Driver Power Ground. Connects to the source of the bottom N channel MOSFET, the (-) terminal of CVCC and the (-) terminal of CIN.", 10 BG (out) "Bottom Gate Drive. Drives the gate of the bottom N-channel MOSFET between ground and INTVCC.", 11 INTVCC (power) "Internal 5.2V Regulator Output. The driver and control circuits are powered from this voltage. Decouple this pin to power ground with a minimum of 4.7uF tantalum or other low ESR capacitor.", 12 BOOST "Topside Floating Driver Supply. The (+) terminal of the bootstrap capacitor connects here. This pin swings from a Schottky diode drop below INTVCC to VIN + INTVCC.", 13 TG (out) "Top Gate Drive. Drives the top N-channel MOSFET with a voltage swing equal to INTVCC superimposed on the switch node voltage.", 14 SW "Switch Node. The (-) terminal of the bootstrap capacitor connects here. This pin swings from a diode drop below ground up to VIN.", 15 TK (in) "Top MOSFET Kelvin Sense. MOSFET VDS sensing requires this pin to be routed to the drain of the top MOSFET separately from VIN.", 16 VIN (power) "Main Supply Input. Decouple this pin to ground with an RC filter (1ohm, 0.1uF) for applications above 3A."

## LTC1775CS#TR
designator U?
High Power No Rsense(TM) Current Mode Synchronous Step-Down Switching Regulator, 16-pin SOP (S-16), 0 to 70 degC, Tape and Reel; Manufacturer: Linear Technology; PartNumber: LTC1775CS#TR; Number of Outputs: 1; PackageReference: S-16; PackageDescription: 16-Pin Plastic Small Outline, Body 9.9 x 3.9 mm, Pitch 1.27 mm; Supplier 1: Digi-Key; Supplier Part Number 1: LTC1775CS#TR-ND; RoHS: FALSE
footprint LT-S-16_N (SOP, 16-Leads, Body 10x4mm, Pitch 1.27mm, IPC Medium Density)
footprint LT-S-16_L (SOP, 16-Leads, Body 10x4mm, Pitch 1.27mm, IPC High Density)
footprint LT-S-16_M (SOP, 16-Leads, Body 10x4mm, Pitch 1.27mm, IPC Low Density)
pins: 1 EXTVCC (power) "INTVCC Switch Input. When the EXTVCC voltage is above 4.7V, the switch closes and supplies INTVCC power from EXTVCC. Do not exceed 7V at this pin.", 2 SYNC (in) "Synchronization Input for Internal Oscillator. The oscillator will nominally run at 150kHz when open, 225kHz when tied above 1.2V, and will lock over a 1.5:1 clock frequency range.", 3 RUN/SS (in) "Run Control and Soft Start Input. A capacitor to ground at this pin sets the ramp time to full current output (approximately 1s/uF). Forcing this pin below 1.4V shuts down the device.", 4 FCB (in) "Forced Continuous Input. Tie this pin to ground to force synchronous operation at low load currents, to a resistive divider from the secondary output when using a secondary winding, or to INTVCC to enable Burst Mode (See Datasheet)", 5 ITH "Error Amplifier Compensation Point. The current comparator threshold increases with this control voltage, forcing inductor current to be roughly proportional to VITH. Nominal voltage range for this pin is 0V to 2.4V.", 6 SGND (power) "Signal Ground. Connect to the (-) terminal of COUT.", 7 VOSENSE (in) "Output Voltage Sense. Feedback input from the remotely sensed output voltage or from an external resistive divider across the output.", 8 VPROG (in) "Output Voltage Programming. When VOSENSE is connected to the output, VPROG < 0.8V selects a 3.3V output and VPROG > 3.5V selects a 5V output.Leaving VPROG open allows the output voltage to be set by an external resistive (See Datasheet)", 9 PGND (power) "Driver Power Ground. Connects to the source of the bottom N channel MOSFET, the (-) terminal of CVCC and the (-) terminal of CIN.", 10 BG (out) "Bottom Gate Drive. Drives the gate of the bottom N-channel MOSFET between ground and INTVCC.", 11 INTVCC (power) "Internal 5.2V Regulator Output. The driver and control circuits are powered from this voltage. Decouple this pin to power ground with a minimum of 4.7uF tantalum or other low ESR capacitor.", 12 BOOST "Topside Floating Driver Supply. The (+) terminal of the bootstrap capacitor connects here. This pin swings from a Schottky diode drop below INTVCC to VIN + INTVCC.", 13 TG (out) "Top Gate Drive. Drives the top N-channel MOSFET with a voltage swing equal to INTVCC superimposed on the switch node voltage.", 14 SW "Switch Node. The (-) terminal of the bootstrap capacitor connects here. This pin swings from a diode drop below ground up to VIN.", 15 TK (in) "Top MOSFET Kelvin Sense. MOSFET VDS sensing requires this pin to be routed to the drain of the top MOSFET separately from VIN.", 16 VIN (power) "Main Supply Input. Decouple this pin to ground with an RC filter (1ohm, 0.1uF) for applications above 3A."

## LTC1775CS#TRPBF
designator U?
High Power No Rsense(TM) Current Mode Synchronous Step-Down Switching Regulator, 16-pin SOP (S-16), 0 to 70 degC, Pb-Free, Tape and Reel; Manufacturer: Linear Technology; PartNumber: LTC1775CS#TRPBF; Number of Outputs: 1; PackageReference: S-16; PackageDescription: 16-Pin Plastic Small Outline, Body 9.9 x 3.9 mm, Pitch 1.27 mm; Supplier 1: Digi-Key; Supplier Part Number 1: LTC1775CS#TRPBF-ND; RoHS: TRUE
footprint LT-S-16_N (SOP, 16-Leads, Body 10x4mm, Pitch 1.27mm, IPC Medium Density)
footprint LT-S-16_L (SOP, 16-Leads, Body 10x4mm, Pitch 1.27mm, IPC High Density)
footprint LT-S-16_M (SOP, 16-Leads, Body 10x4mm, Pitch 1.27mm, IPC Low Density)
pins: 1 EXTVCC (power) "INTVCC Switch Input. When the EXTVCC voltage is above 4.7V, the switch closes and supplies INTVCC power from EXTVCC. Do not exceed 7V at this pin.", 2 SYNC (in) "Synchronization Input for Internal Oscillator. The oscillator will nominally run at 150kHz when open, 225kHz when tied above 1.2V, and will lock over a 1.5:1 clock frequency range.", 3 RUN/SS (in) "Run Control and Soft Start Input. A capacitor to ground at this pin sets the ramp time to full current output (approximately 1s/uF). Forcing this pin below 1.4V shuts down the device.", 4 FCB (in) "Forced Continuous Input. Tie this pin to ground to force synchronous operation at low load currents, to a resistive divider from the secondary output when using a secondary winding, or to INTVCC to enable Burst Mode (See Datasheet)", 5 ITH "Error Amplifier Compensation Point. The current comparator threshold increases with this control voltage, forcing inductor current to be roughly proportional to VITH. Nominal voltage range for this pin is 0V to 2.4V.", 6 SGND (power) "Signal Ground. Connect to the (-) terminal of COUT.", 7 VOSENSE (in) "Output Voltage Sense. Feedback input from the remotely sensed output voltage or from an external resistive divider across the output.", 8 VPROG (in) "Output Voltage Programming. When VOSENSE is connected to the output, VPROG < 0.8V selects a 3.3V output and VPROG > 3.5V selects a 5V output.Leaving VPROG open allows the output voltage to be set by an external resistive (See Datasheet)", 9 PGND (power) "Driver Power Ground. Connects to the source of the bottom N channel MOSFET, the (-) terminal of CVCC and the (-) terminal of CIN.", 10 BG (out) "Bottom Gate Drive. Drives the gate of the bottom N-channel MOSFET between ground and INTVCC.", 11 INTVCC (power) "Internal 5.2V Regulator Output. The driver and control circuits are powered from this voltage. Decouple this pin to power ground with a minimum of 4.7uF tantalum or other low ESR capacitor.", 12 BOOST "Topside Floating Driver Supply. The (+) terminal of the bootstrap capacitor connects here. This pin swings from a Schottky diode drop below INTVCC to VIN + INTVCC.", 13 TG (out) "Top Gate Drive. Drives the top N-channel MOSFET with a voltage swing equal to INTVCC superimposed on the switch node voltage.", 14 SW "Switch Node. The (-) terminal of the bootstrap capacitor connects here. This pin swings from a diode drop below ground up to VIN.", 15 TK (in) "Top MOSFET Kelvin Sense. MOSFET VDS sensing requires this pin to be routed to the drain of the top MOSFET separately from VIN.", 16 VIN (power) "Main Supply Input. Decouple this pin to ground with an RC filter (1ohm, 0.1uF) for applications above 3A."

## LTC1775IGN
designator U?
High Power No Rsense(TM) Current Mode Synchronous Step-Down Switching Regulator, 16-pin SOP (GN-16), -40 to 85 degC; Manufacturer: Linear Technology; PartNumber: LTC1775IGN; Number of Outputs: 1; PackageReference: GN-16; PackageDescription: 16-Pin Plastic SSOP, Body 4.9 x 3.9 mm, Pitch 0.635 mm; Supplier 1: Digi-Key; Supplier Part Number 1: LTC1775IGN-ND; RoHS: FALSE
footprint LT-GN-16_N (SOP, 16-Leads, Body 5x4mm, Pitch 0.635mm, IPC Medium Density)
footprint LT-GN-16_L (SOP, 16-Leads, Body 5x4mm, Pitch 0.635mm, IPC High Density)
footprint LT-GN-16_M (SOP, 16-Leads, Body 5x4mm, Pitch 0.635mm, IPC Low Density)
pins: 1 EXTVCC (power) "INTVCC Switch Input. When the EXTVCC voltage is above 4.7V, the switch closes and supplies INTVCC power from EXTVCC. Do not exceed 7V at this pin.", 2 SYNC (in) "Synchronization Input for Internal Oscillator. The oscillator will nominally run at 150kHz when open, 225kHz when tied above 1.2V, and will lock over a 1.5:1 clock frequency range.", 3 RUN/SS (in) "Run Control and Soft Start Input. A capacitor to ground at this pin sets the ramp time to full current output (approximately 1s/uF). Forcing this pin below 1.4V shuts down the device.", 4 FCB (in) "Forced Continuous Input. Tie this pin to ground to force synchronous operation at low load currents, to a resistive divider from the secondary output when using a secondary winding, or to INTVCC to enable Burst Mode (See Datasheet)", 5 ITH "Error Amplifier Compensation Point. The current comparator threshold increases with this control voltage, forcing inductor current to be roughly proportional to VITH. Nominal voltage range for this pin is 0V to 2.4V.", 6 SGND (power) "Signal Ground. Connect to the (-) terminal of COUT.", 7 VOSENSE (in) "Output Voltage Sense. Feedback input from the remotely sensed output voltage or from an external resistive divider across the output.", 8 VPROG (in) "Output Voltage Programming. When VOSENSE is connected to the output, VPROG < 0.8V selects a 3.3V output and VPROG > 3.5V selects a 5V output.Leaving VPROG open allows the output voltage to be set by an external resistive (See Datasheet)", 9 PGND (power) "Driver Power Ground. Connects to the source of the bottom N channel MOSFET, the (-) terminal of CVCC and the (-) terminal of CIN.", 10 BG (out) "Bottom Gate Drive. Drives the gate of the bottom N-channel MOSFET between ground and INTVCC.", 11 INTVCC (power) "Internal 5.2V Regulator Output. The driver and control circuits are powered from this voltage. Decouple this pin to power ground with a minimum of 4.7uF tantalum or other low ESR capacitor.", 12 BOOST "Topside Floating Driver Supply. The (+) terminal of the bootstrap capacitor connects here. This pin swings from a Schottky diode drop below INTVCC to VIN + INTVCC.", 13 TG (out) "Top Gate Drive. Drives the top N-channel MOSFET with a voltage swing equal to INTVCC superimposed on the switch node voltage.", 14 SW "Switch Node. The (-) terminal of the bootstrap capacitor connects here. This pin swings from a diode drop below ground up to VIN.", 15 TK (in) "Top MOSFET Kelvin Sense. MOSFET VDS sensing requires this pin to be routed to the drain of the top MOSFET separately from VIN.", 16 VIN (power) "Main Supply Input. Decouple this pin to ground with an RC filter (1ohm, 0.1uF) for applications above 3A."